# Altium footprint library L18.PcbLib: 4 footprints
Each footprint in its own frame and in the unit in brackets; x right, y up, seen from the top. Pads: shape width x height; smd on the part's side, far side on the other; paste and mask are expansions set on the pad; w line width, h text height; cw(c..) or ccw(c..) is an arc to the next point about the centre after c.
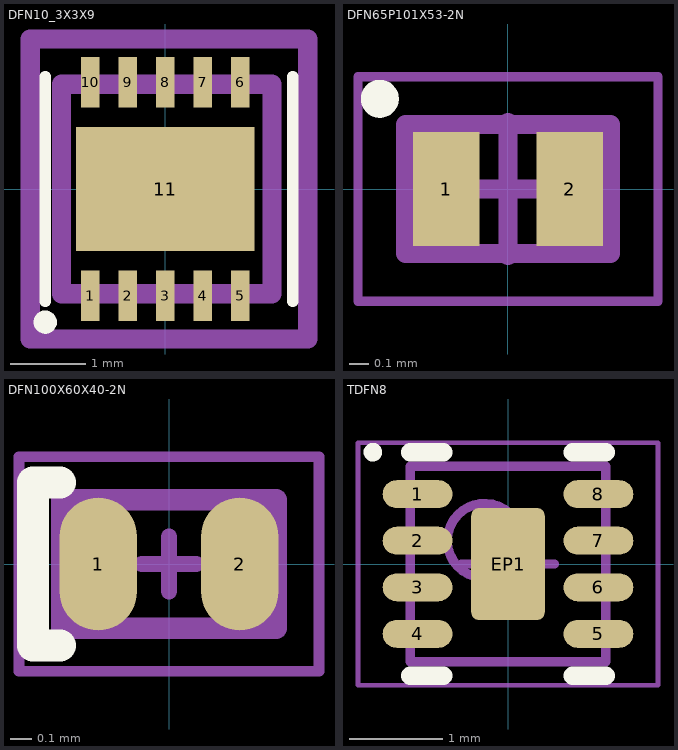
[diagram p0: the footprints below, top view; thin cyan lines are the x and y axes]

## DFN10_3X3X9 [mm]
pads (11):
  rect 0.25x0.675 smd: 1(-1,-1.425) 2(-0.5,-1.425) 3(0,-1.425) 4(0.5,-1.425) 5(1,-1.425) 6(1,1.425) 7(0.5,1.425) 8(0,1.425) 9(-0.5,1.425) 10(-1,1.425)
  rect 2.38x1.65 smd: 11(0,0)
Top Overlay:
  circle w0.152: c-1.6,-1.775 r0.079
  lines w0.152: -1.6,-1.5 -1.6,1.5 ; 1.7,-1.5 1.7,1.5
Top Courtyard:
  lines w0.254: -1.8,-2 1.9,-2 1.9,2 -1.8,2 -1.8,-2
Top Assembly:
  lines w0.254: -1.381,-1.397 1.425,-1.397 1.425,1.397 -1.381,1.397 -1.381,-1.397
3D body "User Library-DFN-10.STEP": height 0.8, standoff 0, extent -1.5,-1.5 1.5,1.5

## DFN65P101X53-2N [mm] "DFN, 2-Leads, Body 0.61x1.01mm, Pitch 0.65mm, IPC Medium Density"
height 0.53
pads (2):
  rect 0.35x0.6 smd: 1(-0.325,0) 2(0.325,0)
Top Overlay:
  circle w0.1: c-0.675,0.475 r0.05
Top 3D Body:
  lines w0.05: -0.79,-0.59 0.79,-0.59 0.79,0.59 -0.79,0.59 -0.79,-0.59
  lines w0.1: -0.5,0 0.5,0 ; 0,-0.35 0,0.35
Top Assembly:
  lines w0.1: -0.54,-0.34 0.54,-0.34 0.54,0.34 -0.54,0.34 -0.54,-0.34
3D body "DFN65P101X53-2N.step": height 0.53, standoff 0, extent -0.537,-0.337 0.538,0.338

## DFN100X60X40-2N [mm] "DFN; 2 pin,1.00mm L X 0.60mm W X 0.40mm H, IPC Medium Density"
height 0.4
pads (2):
  oval 0.36x0.62 smd mask+0.05: 1(-0.33,0)
  oval 0.36x0.62 smd mask+0: 2(0.33,0)
Top Overlay:
  lines w0.15: -0.508,-0.381 -0.635,-0.381 -0.635,0.381 -0.508,0.381
Top 3D Body:
  lines w0.1: -0.4,-0.3 -0.4,0.3 ; -0.3,-0.3 -0.3,0.3 ; -0.5,-0.3 0.5,-0.3 0.5,0.3 -0.5,0.3 -0.5,-0.3
Top Courtyard:
  lines w0.05: -0.7,-0.5 0.7,-0.5 0.7,0.5 -0.7,0.5 -0.7,-0.5
  lines w0.076: -0.127,0 0.127,0 ; 0,-0.127 0,0.127
3D body "DFN100X60X40-2N.stp": height 0.4, standoff 0, extent -0.525,-0.325 0.525,0.325

## TDFN8 [mm]
pads (9):
  oval 0.75x0.3 smd mask+0.05: 1(-0.97,0.75) 4(-0.97,-0.75) 5(0.97,-0.75) 6(0.97,-0.25) 7(0.97,0.25) 8(0.97,0.75)
  oval 0.75x0.3 smd mask+0: 2(-0.97,0.25) 3(-0.97,-0.25)
  rrect20% 0.79x1.2 smd mask+0.05: EP1(0,0)
Top Overlay:
  circle w0.1: c-1.45,1.2 r0.05
  lines w0.2: -1.05,-1.2 -0.695,-1.2 ; -1.05,1.2 -0.695,1.2 ; 0.695,-1.2 1.05,-1.2 ; 0.695,1.2 1.05,1.2
Mechanical 14:
  circle w0.1: c-0.25,0.25 r0.4
  lines w0.1: -1.05,-1.05 1.05,-1.05 1.05,1.05 -1.05,1.05 -1.05,-1.05
Mechanical 15:
  lines w0.05: -1.61,-1.3 1.61,-1.3 1.61,1.3 -1.61,1.3 -1.61,-1.3
  lines w0.1: -0.5,0 0.5,0 ; 0,-0.5 0,0.5
3D body "SON50P200X80_HS-9N.step": height 0.8, standoff 0, extent -1.1,-1.05 1.1,1.05